# Altium schematic symbol library WE-XHMA.SchLib: 35 symbols
Pins are listed as number, name and electrical type; pins without a type are passive.

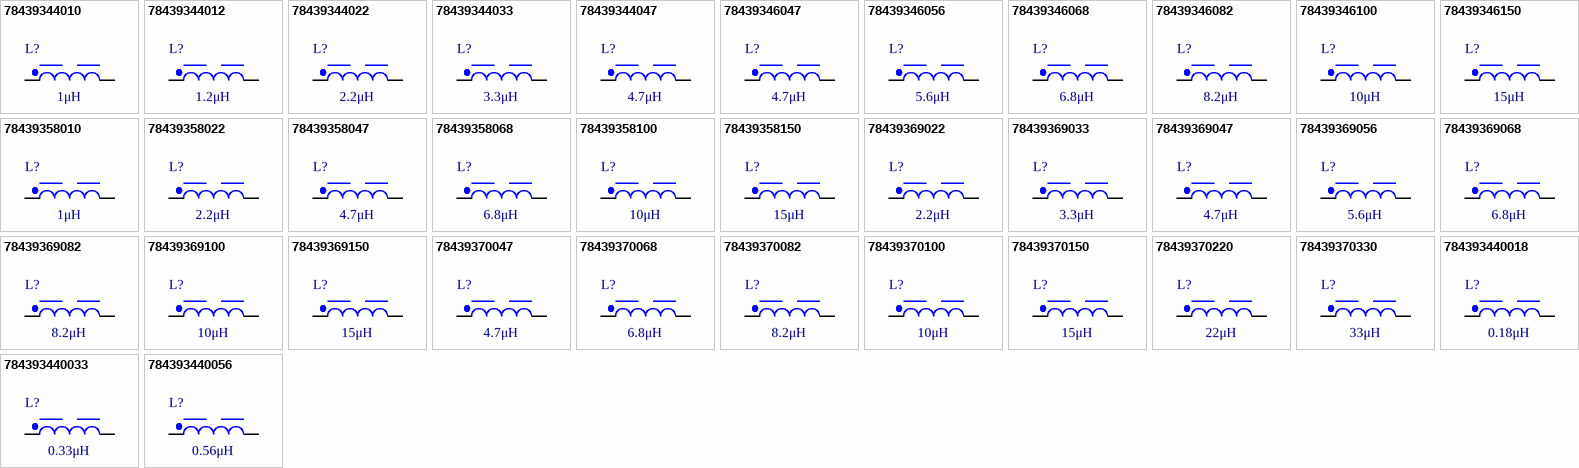
[diagram p0: symbols 78439344010 to 784393440056]

## 78439344010
designator L?, comment 1μH
WE-XHMA SMD Power Inductor, size 6030, 1μH, 15.75A, 5.5mΩ; Manufacturer Part Number: 78439344010; Manufacturer: Wurth Elektronik; Case/Size Code: 6030; Inductance Tolerance: +/-20%; Material: Hyperflux; Rated Current: 12A; Saturation Current @ 10%: 11A; Saturation Current @ 30%: 24.95A; Self Resonant Frequency: 59MHz; Category: Power Inductors; Match Code: WE-XHMA; ComponentLink1Description: Website Link; ComponentLink1URL: https://www.we-online.com/redexpert/article/78439344010?ad; ComponentLink2Description: Datasheet Link; ComponentLink2URL: https://www.we-online.com/redexpert/spec/78439344010?ad; Mount: Surface Mount; Min Operating Temperature: -40°C; Max Operating Temperature: 125°C; Packaging: Tape and Reel; Length: 6.65mm; Width: 6.45mm; Height: 3.3mm; Automotive: Yes; DC Resistance: 5.5mΩ; Inductance: 1μH; Performance Rated Current: 15.75A
footprint WE-XHMA_6030
simulation model 6030_78439344010_1u
pins: 1, 2

## 78439344012
designator L?, comment 1.2μH
WE-XHMA SMD Power Inductor, size 6030, 1.2μH, 14.45A, 6.4mΩ; Manufacturer Part Number: 78439344012; Manufacturer: Wurth Elektronik; Case/Size Code: 6030; Inductance Tolerance: +/-20%; Material: Hyperflux; Rated Current: 10.3A; Saturation Current @ 10%: 7.7A; Saturation Current @ 30%: 21.6A; Self Resonant Frequency: 53MHz; Category: Power Inductors; Match Code: WE-XHMA; ComponentLink1Description: Website Link; ComponentLink1URL: https://www.we-online.com/redexpert/article/78439344012?ad; ComponentLink2Description: Datasheet Link; ComponentLink2URL: https://www.we-online.com/redexpert/spec/78439344012?ad; Mount: Surface Mount; Min Operating Temperature: -40°C; Max Operating Temperature: 125°C; Packaging: Tape and Reel; Length: 6.65mm; Width: 6.45mm; Height: 3.3mm; Automotive: Yes; DC Resistance: 6.4mΩ; Inductance: 1.2μH; Performance Rated Current: 14.45A
footprint WE-XHMA_6030
simulation model 6030_78439344012_1.2u
pins: 1, 2

## 78439344022
designator L?, comment 2.2μH
WE-XHMA SMD Power Inductor, size 6030, 2.2μH, 10.85A, 10.5mΩ; Manufacturer Part Number: 78439344022; Manufacturer: Wurth Elektronik; Case/Size Code: 6030; Inductance Tolerance: +/-20%; Material: Hyperflux; Rated Current: 8A; Saturation Current @ 10%: 7.5A; Saturation Current @ 30%: 16.25A; Self Resonant Frequency: 37MHz; Category: Power Inductors; Match Code: WE-XHMA; ComponentLink1Description: Website Link; ComponentLink1URL: https://www.we-online.com/redexpert/article/78439344022?ad; ComponentLink2Description: Datasheet Link; ComponentLink2URL: https://www.we-online.com/redexpert/spec/78439344022?ad; Mount: Surface Mount; Min Operating Temperature: -40°C; Max Operating Temperature: 125°C; Packaging: Tape and Reel; Length: 6.65mm; Width: 6.45mm; Height: 3.3mm; Automotive: Yes; DC Resistance: 10.5mΩ; Inductance: 2.2μH; Performance Rated Current: 10.85A
footprint WE-XHMA_6030
simulation model 6030_78439344022_2.2u
pins: 1, 2

## 78439344033
designator L?, comment 3.3μH
WE-XHMA SMD Power Inductor, size 6030, 3.3μH, 7.65A, 19.2mΩ; Manufacturer Part Number: 78439344033; Manufacturer: Wurth Elektronik; Case/Size Code: 6030; Inductance Tolerance: +/-20%; Material: Hyperflux; Rated Current: 6A; Saturation Current @ 10%: 6.7A; Saturation Current @ 30%: 14.5A; Self Resonant Frequency: 31MHz; Category: Power Inductors; Match Code: WE-XHMA; ComponentLink1Description: Website Link; ComponentLink1URL: https://www.we-online.com/redexpert/article/78439344033?ad; ComponentLink2Description: Datasheet Link; ComponentLink2URL: https://www.we-online.com/redexpert/spec/78439344033?ad; Mount: Surface Mount; Min Operating Temperature: -40°C; Max Operating Temperature: 125°C; Packaging: Tape and Reel; Length: 6.65mm; Width: 6.45mm; Height: 3.3mm; Automotive: Yes; DC Resistance: 19.2mΩ; Inductance: 3.3μH; Performance Rated Current: 7.65A
footprint WE-XHMA_6030
simulation model 6030_78439344033_3.3u
pins: 1, 2

## 78439344047
designator L?, comment 4.7μH
WE-XHMA SMD Power Inductor, size 6030, 4.7μH, 5.8A, 31mΩ; Manufacturer Part Number: 78439344047; Manufacturer: Wurth Elektronik; Case/Size Code: 6030; Inductance Tolerance: +/-20%; Material: Hyperflux; Rated Current: 4.7A; Saturation Current @ 10%: 3.7A; Saturation Current @ 30%: 10.5A; Self Resonant Frequency: 28MHz; Category: Power Inductors; Match Code: WE-XHMA; ComponentLink1Description: Website Link; ComponentLink1URL: https://www.we-online.com/redexpert/article/78439344047?ad; ComponentLink2Description: Datasheet Link; ComponentLink2URL: https://www.we-online.com/redexpert/spec/78439344047?ad; Mount: Surface Mount; Min Operating Temperature: -40°C; Max Operating Temperature: 125°C; Packaging: Tape and Reel; Length: 6.65mm; Width: 6.45mm; Height: 3.3mm; Automotive: Yes; DC Resistance: 31mΩ; Inductance: 4.7μH; Performance Rated Current: 5.8A
footprint WE-XHMA_6030
simulation model 6030_78439344047_4.7u
pins: 1, 2

## 78439346047
designator L?, comment 4.7μH
WE-XHMA SMD Power Inductor, size 6060, 4.7μH, 9.6A, 13mΩ; Manufacturer Part Number: 78439346047; Manufacturer: Wurth Elektronik; Case/Size Code: 6060; Inductance Tolerance: +/-20%; Material: Hyperflux; Rated Current: 7.4A; Saturation Current @ 10%: 6.5A; Saturation Current @ 30%: 13A; Self Resonant Frequency: 28MHz; Category: Power Inductors; Match Code: WE-XHMA; ComponentLink1Description: Website Link; ComponentLink1URL: https://www.we-online.com/redexpert/article/78439346047?ad; ComponentLink2Description: Datasheet Link; ComponentLink2URL: https://www.we-online.com/redexpert/spec/78439346047?ad; Mount: Surface Mount; Min Operating Temperature: -40°C; Max Operating Temperature: 125°C; Packaging: Tape and Reel; Length: 6.65mm; Width: 6.45mm; Height: 6.1mm; Automotive: Yes; DC Resistance: 13mΩ; Inductance: 4.7μH; Performance Rated Current: 9.6A
footprint WE-XHMA_6060
simulation model 6060_78439346047_4.7u
pins: 1, 2

## 78439346056
designator L?, comment 5.6μH
WE-XHMA SMD Power Inductor, size 6060, 5.6μH, 8.9A, 15mΩ; Manufacturer Part Number: 78439346056; Manufacturer: Wurth Elektronik; Case/Size Code: 6060; Inductance Tolerance: +/-20%; Material: Hyperflux; Rated Current: 6.9A; Saturation Current @ 10%: 5.8A; Saturation Current @ 30%: 12.1A; Self Resonant Frequency: 25MHz; Category: Power Inductors; Match Code: WE-XHMA; ComponentLink1Description: Website Link; ComponentLink1URL: https://www.we-online.com/redexpert/article/78439346056?ad; ComponentLink2Description: Datasheet Link; ComponentLink2URL: https://www.we-online.com/redexpert/spec/78439346056?ad; Mount: Surface Mount; Min Operating Temperature: -40°C; Max Operating Temperature: 125°C; Packaging: Tape and Reel; Length: 6.65mm; Width: 6.45mm; Height: 6.1mm; Automotive: Yes; DC Resistance: 15mΩ; Inductance: 5.6μH; Performance Rated Current: 8.9A
footprint WE-XHMA_6060
simulation model 6060_78439346056_5.6u
pins: 1, 2

## 78439346068
designator L?, comment 6.8μH
WE-XHMA SMD Power Inductor, size 6060, 6.8μH, 8.1A, 17.6mΩ; Manufacturer Part Number: 78439346068; Manufacturer: Wurth Elektronik; Case/Size Code: 6060; Inductance Tolerance: +/-20%; Material: Hyperflux; Rated Current: 6.5A; Saturation Current @ 10%: 5.65A; Saturation Current @ 30%: 11.3A; Self Resonant Frequency: 22MHz; Category: Power Inductors; Match Code: WE-XHMA; ComponentLink1Description: Website Link; ComponentLink1URL: https://www.we-online.com/redexpert/article/78439346068?ad; ComponentLink2Description: Datasheet Link; ComponentLink2URL: https://www.we-online.com/redexpert/spec/78439346068?ad; Mount: Surface Mount; Min Operating Temperature: -40°C; Max Operating Temperature: 125°C; Packaging: Tape and Reel; Length: 6.65mm; Width: 6.45mm; Height: 6.1mm; Automotive: Yes; DC Resistance: 17.6mΩ; Inductance: 6.8μH; Performance Rated Current: 8.1A
footprint WE-XHMA_6060
simulation model 6060_78439346068_6.8u
pins: 1, 2

## 78439346082
designator L?, comment 8.2μH
WE-XHMA SMD Power Inductor, size 6060, 8.2μH, 6.95A, 23mΩ; Manufacturer Part Number: 78439346082; Manufacturer: Wurth Elektronik; Case/Size Code: 6060; Inductance Tolerance: +/-20%; Material: Hyperflux; Rated Current: 5.3A; Saturation Current @ 10%: 4.6A; Saturation Current @ 30%: 9.3A; Self Resonant Frequency: 19MHz; Category: Power Inductors; Match Code: WE-XHMA; ComponentLink1Description: Website Link; ComponentLink1URL: https://www.we-online.com/redexpert/article/78439346082?ad; ComponentLink2Description: Datasheet Link; ComponentLink2URL: https://www.we-online.com/redexpert/spec/78439346082?ad; Mount: Surface Mount; Min Operating Temperature: -40°C; Max Operating Temperature: 125°C; Packaging: Tape and Reel; Length: 6.65mm; Width: 6.45mm; Height: 6.1mm; Automotive: Yes; DC Resistance: 23mΩ; Inductance: 8.2μH; Performance Rated Current: 6.95A
footprint WE-XHMA_6060
simulation model 6060_78439346082_8.2u
pins: 1, 2

## 78439346100
designator L?, comment 10μH
WE-XHMA SMD Power Inductor, size 6060, 10μH, 6.4A, 26.5mΩ; Manufacturer Part Number: 78439346100; Manufacturer: Wurth Elektronik; Case/Size Code: 6060; Inductance Tolerance: +/-20%; Material: Hyperflux; Rated Current: 5A; Saturation Current @ 10%: 5.05A; Saturation Current @ 30%: 9.7A; Self Resonant Frequency: 18MHz; Category: Power Inductors; Match Code: WE-XHMA; ComponentLink1Description: Website Link; ComponentLink1URL: https://www.we-online.com/redexpert/article/78439346100?ad; ComponentLink2Description: Datasheet Link; ComponentLink2URL: https://www.we-online.com/redexpert/spec/78439346100?ad; Mount: Surface Mount; Min Operating Temperature: -40°C; Max Operating Temperature: 125°C; Packaging: Tape and Reel; Length: 6.65mm; Width: 6.45mm; Height: 6.1mm; Automotive: Yes; DC Resistance: 26.5mΩ; Inductance: 10μH; Performance Rated Current: 6.4A
footprint WE-XHMA_6060
simulation model 6060_78439346100_10u
pins: 1, 2

## 78439346150
designator L?, comment 15μH
WE-XHMA SMD Power Inductor, size 6060, 15μH, 4.9A, 42mΩ; Manufacturer Part Number: 78439346150; Manufacturer: Wurth Elektronik; Case/Size Code: 6060; Inductance Tolerance: +/-20%; Material: Hyperflux; Rated Current: 4.2A; Saturation Current @ 10%: 3.65A; Saturation Current @ 30%: 7.4A; Self Resonant Frequency: 14MHz; Category: Power Inductors; Match Code: WE-XHMA; ComponentLink1Description: Website Link; ComponentLink1URL: https://www.we-online.com/redexpert/article/78439346150?ad; ComponentLink2Description: Datasheet Link; ComponentLink2URL: https://www.we-online.com/redexpert/spec/78439346150?ad; Mount: Surface Mount; Min Operating Temperature: -40°C; Max Operating Temperature: 125°C; Packaging: Tape and Reel; Length: 6.65mm; Width: 6.45mm; Height: 6.1mm; Automotive: Yes; DC Resistance: 42mΩ; Inductance: 15μH; Performance Rated Current: 4.9A
footprint WE-XHMA_6060
simulation model 6060_78439346150_15u
pins: 1, 2

## 78439358010
designator L?, comment 1μH
WE-XHMA SMD Power Inductor, size 8080, 1μH, 30.25A, 2.1mΩ; Manufacturer Part Number: 78439358010; Manufacturer: Wurth Elektronik; Case/Size Code: 8080; Inductance Tolerance: +/-20%; Material: Hyperflux; Rated Current: 17A; Saturation Current @ 10%: 18.15A; Saturation Current @ 30%: 38.15A; Self Resonant Frequency: 53MHz; Category: Power Inductors; Match Code: WE-XHMA; ComponentLink1Description: Website Link; ComponentLink1URL: https://www.we-online.com/redexpert/article/78439358010?ad; ComponentLink2Description: Datasheet Link; ComponentLink2URL: https://www.we-online.com/redexpert/spec/78439358010?ad; Mount: Surface Mount; Min Operating Temperature: -40°C; Max Operating Temperature: 125°C; Packaging: Tape and Reel; Length: 8.8mm; Width: 8.3mm; Height: 8mm; Automotive: Yes; DC Resistance: 2.1mΩ; Inductance: 1μH; Performance Rated Current: 30.25A
footprint WE-XHMA_8080
simulation model 8080_78439358010_1u
pins: 1, 2

## 78439358022
designator L?, comment 2.2μH
WE-XHMA SMD Power Inductor, size 8080, 2.2μH, 21.85A, 3.7mΩ; Manufacturer Part Number: 78439358022; Manufacturer: Wurth Elektronik; Case/Size Code: 8080; Inductance Tolerance: +/-20%; Material: Hyperflux; Rated Current: 13A; Saturation Current @ 10%: 12.55A; Saturation Current @ 30%: 26.45A; Self Resonant Frequency: 33MHz; Category: Power Inductors; Match Code: WE-XHMA; ComponentLink1Description: Website Link; ComponentLink1URL: https://www.we-online.com/redexpert/article/78439358022?ad; ComponentLink2Description: Datasheet Link; ComponentLink2URL: https://www.we-online.com/redexpert/spec/78439358022?ad; Mount: Surface Mount; Min Operating Temperature: -40°C; Max Operating Temperature: 125°C; Packaging: Tape and Reel; Length: 8.8mm; Width: 8.3mm; Height: 8mm; Automotive: Yes; DC Resistance: 3.7mΩ; Inductance: 2.2μH; Performance Rated Current: 21.85A
footprint WE-XHMA_8080
simulation model 8080_78439358022_2.2u
pins: 1, 2

## 78439358047
designator L?, comment 4.7μH
WE-XHMA SMD Power Inductor, size 8080, 4.7μH, 13.35A, 8.65mΩ; Manufacturer Part Number: 78439358047; Manufacturer: Wurth Elektronik; Case/Size Code: 8080; Inductance Tolerance: +/-20%; Material: Hyperflux; Rated Current: 9.5A; Saturation Current @ 10%: 7.5A; Saturation Current @ 30%: 16.65A; Self Resonant Frequency: 22MHz; Category: Power Inductors; Match Code: WE-XHMA; ComponentLink1Description: Website Link; ComponentLink1URL: https://www.we-online.com/redexpert/article/78439358047?ad; ComponentLink2Description: Datasheet Link; ComponentLink2URL: https://www.we-online.com/redexpert/spec/78439358047?ad; Mount: Surface Mount; Min Operating Temperature: -40°C; Max Operating Temperature: 125°C; Packaging: Tape and Reel; Length: 8.8mm; Width: 8.3mm; Height: 8mm; Automotive: Yes; DC Resistance: 8.65mΩ; Inductance: 4.7μH; Performance Rated Current: 13.35A
footprint WE-XHMA_8080
simulation model 8080_78439358047_4.7u
pins: 1, 2

## 78439358068
designator L?, comment 6.8μH
WE-XHMA SMD Power Inductor, size 8080, 6.8μH, 10.55A, 13mΩ; Manufacturer Part Number: 78439358068; Manufacturer: Wurth Elektronik; Case/Size Code: 8080; Inductance Tolerance: +/-20%; Material: Hyperflux; Rated Current: 7.2A; Saturation Current @ 10%: 8.5A; Saturation Current @ 30%: 17.6A; Self Resonant Frequency: 22MHz; Category: Power Inductors; Match Code: WE-XHMA; ComponentLink1Description: Website Link; ComponentLink1URL: https://www.we-online.com/redexpert/article/78439358068?ad; ComponentLink2Description: Datasheet Link; ComponentLink2URL: https://www.we-online.com/redexpert/spec/78439358068?ad; Mount: Surface Mount; Min Operating Temperature: -40°C; Max Operating Temperature: 125°C; Packaging: Tape and Reel; Length: 8.8mm; Width: 8.3mm; Height: 8mm; Automotive: Yes; DC Resistance: 13mΩ; Inductance: 6.8μH; Performance Rated Current: 10.55A
footprint WE-XHMA_8080
simulation model 8080_78439358068_6.8u
pins: 1, 2

## 78439358100
designator L?, comment 10μH
WE-XHMA SMD Power Inductor, size 8080, 10μH, 8.5A, 19mΩ; Manufacturer Part Number: 78439358100; Manufacturer: Wurth Elektronik; Case/Size Code: 8080; Inductance Tolerance: +/-20%; Material: Hyperflux; Rated Current: 5.8A; Saturation Current @ 10%: 6.3A; Saturation Current @ 30%: 13.5A; Self Resonant Frequency: 17MHz; Category: Power Inductors; Match Code: WE-XHMA; ComponentLink1Description: Website Link; ComponentLink1URL: https://www.we-online.com/redexpert/article/78439358100?ad; ComponentLink2Description: Datasheet Link; ComponentLink2URL: https://www.we-online.com/redexpert/spec/78439358100?ad; Mount: Surface Mount; Min Operating Temperature: -40°C; Max Operating Temperature: 125°C; Packaging: Tape and Reel; Length: 8.8mm; Width: 8.3mm; Height: 8mm; Automotive: Yes; DC Resistance: 19mΩ; Inductance: 10μH; Performance Rated Current: 8.5A
footprint WE-XHMA_8080
simulation model 8080_78439358100_10u
pins: 1, 2

## 78439358150
designator L?, comment 15μH
WE-XHMA SMD Power Inductor, size 8080, 15μH, 7.25A, 25mΩ; Manufacturer Part Number: 78439358150; Manufacturer: Wurth Elektronik; Case/Size Code: 8080; Inductance Tolerance: +/-20%; Material: Hyperflux; Rated Current: 5.6A; Saturation Current @ 30%: 10.7A; Self Resonant Frequency: 12MHz; Category: Power Inductors; Match Code: WE-XHMA; ComponentLink1Description: Website Link; ComponentLink1URL: https://www.we-online.com/redexpert/article/78439358150?ad; ComponentLink2Description: Datasheet Link; ComponentLink2URL: https://www.we-online.com/redexpert/spec/78439358150?ad; Mount: Surface Mount; Min Operating Temperature: -40°C; Max Operating Temperature: 125°C; Packaging: Tape and Reel; Length: 8.8mm; Width: 8.3mm; Height: 7.8mm; Automotive: Yes; DC Resistance: 25mΩ; Inductance: 15μH; Performance Rated Current: 7.25A; Saturation Current @ 10%: 5.6A
footprint WE-XHMA_8080
pins: 1, 2

## 78439369022
designator L?, comment 2.2μH
WE-XHMA SMD Power Inductor, size 1090, 2.2μH, 32.05A, 2.2mΩ; Manufacturer Part Number: 78439369022; Manufacturer: Wurth Elektronik; Case/Size Code: 1090; Inductance Tolerance: +/-20%; Material: Hyperflux; Rated Current: 16A; Saturation Current @ 10%: 15.65A; Saturation Current @ 30%: 32.1A; Self Resonant Frequency: 28MHz; Category: Power Inductors; Match Code: WE-XHMA; ComponentLink1Description: Website Link; ComponentLink1URL: https://www.we-online.com/redexpert/article/78439369022?ad; ComponentLink2Description: Datasheet Link; ComponentLink2URL: https://www.we-online.com/redexpert/spec/78439369022?ad; Mount: Surface Mount; Min Operating Temperature: -40°C; Max Operating Temperature: 125°C; Packaging: Tape and Reel; Length: 11.6mm; Width: 10.5mm; Height: 9.1mm; Automotive: Yes; DC Resistance: 2.2mΩ; Inductance: 2.2μH; Performance Rated Current: 32.05A
footprint WE-XHMA_1090
simulation model 1090_78439369022_2.2u
pins: 1, 2

## 78439369033
designator L?, comment 3.3μH
WE-XHMA SMD Power Inductor, size 1090, 3.3μH, 24.95A, 3.4mΩ; Manufacturer Part Number: 78439369033; Manufacturer: Wurth Elektronik; Case/Size Code: 1090; Inductance Tolerance: +/-20%; Material: Hyperflux; Rated Current: 15A; Saturation Current @ 10%: 15.6A; Saturation Current @ 30%: 34A; Self Resonant Frequency: 23MHz; Category: Power Inductors; Match Code: WE-XHMA; ComponentLink1Description: Website Link; ComponentLink1URL: https://www.we-online.com/redexpert/article/78439369033?ad; ComponentLink2Description: Datasheet Link; ComponentLink2URL: https://www.we-online.com/redexpert/spec/78439369033?ad; Mount: Surface Mount; Min Operating Temperature: -40°C; Max Operating Temperature: 125°C; Packaging: Tape and Reel; Length: 11.6mm; Width: 10.5mm; Height: 9.1mm; Automotive: Yes; DC Resistance: 3.4mΩ; Inductance: 3.3μH; Performance Rated Current: 24.95A
footprint WE-XHMA_1090
simulation model 1090_78439369033_3.3u
pins: 1, 2

## 78439369047
designator L?, comment 4.7μH
WE-XHMA SMD Power Inductor, size 1090, 4.7μH, 20A, 5mΩ; Manufacturer Part Number: 78439369047; Manufacturer: Wurth Elektronik; Case/Size Code: 1090; Inductance Tolerance: +/-20%; Material: Hyperflux; Rated Current: 13.5A; Saturation Current @ 10%: 13.6A; Saturation Current @ 30%: 28.05A; Self Resonant Frequency: 21MHz; Category: Power Inductors; Match Code: WE-XHMA; ComponentLink1Description: Website Link; ComponentLink1URL: https://www.we-online.com/redexpert/article/78439369047?ad; ComponentLink2Description: Datasheet Link; ComponentLink2URL: https://www.we-online.com/redexpert/spec/78439369047?ad; Mount: Surface Mount; Min Operating Temperature: -40°C; Max Operating Temperature: 125°C; Packaging: Tape and Reel; Length: 11.6mm; Width: 10.5mm; Height: 9.1mm; Automotive: Yes; DC Resistance: 5mΩ; Inductance: 4.7μH; Performance Rated Current: 20A
footprint WE-XHMA_1090
simulation model 1090_78439369047_4.7u
pins: 1, 2

## 78439369056
designator L?, comment 5.6μH
WE-XHMA SMD Power Inductor, size 1090, 5.6μH, 18.15A, 5.9mΩ; Manufacturer Part Number: 78439369056; Manufacturer: Wurth Elektronik; Case/Size Code: 1090; Inductance Tolerance: +/-20%; Material: Hyperflux; Rated Current: 11.5A; Saturation Current @ 10%: 11.1A; Saturation Current @ 30%: 24.45A; Self Resonant Frequency: 18MHz; Category: Power Inductors; Match Code: WE-XHMA; ComponentLink1Description: Website Link; ComponentLink1URL: https://www.we-online.com/redexpert/article/78439369056?ad; ComponentLink2Description: Datasheet Link; ComponentLink2URL: https://www.we-online.com/redexpert/spec/78439369056?ad; Mount: Surface Mount; Min Operating Temperature: -40°C; Max Operating Temperature: 125°C; Packaging: Tape and Reel; Length: 11.6mm; Width: 10.5mm; Height: 9.1mm; Automotive: Yes; DC Resistance: 5.9mΩ; Inductance: 5.6μH; Performance Rated Current: 18.15A
footprint WE-XHMA_1090
simulation model 1090_78439369056_5.6u
pins: 1, 2

## 78439369068
designator L?, comment 6.8μH
WE-XHMA SMD Power Inductor, size 1090, 6.8μH, 16.3A, 7.16mΩ; Manufacturer Part Number: 78439369068; Manufacturer: Wurth Elektronik; Case/Size Code: 1090; Inductance Tolerance: +/-20%; Material: Hyperflux; Rated Current: 10.5A; Saturation Current @ 10%: 10.7A; Saturation Current @ 30%: 23.25A; Self Resonant Frequency: 16MHz; Category: Power Inductors; Match Code: WE-XHMA; ComponentLink1Description: Website Link; ComponentLink1URL: https://www.we-online.com/redexpert/article/78439369068?ad; ComponentLink2Description: Datasheet Link; ComponentLink2URL: https://www.we-online.com/redexpert/spec/78439369068?ad; Mount: Surface Mount; Min Operating Temperature: -40°C; Max Operating Temperature: 125°C; Packaging: Tape and Reel; Length: 11.6mm; Width: 10.5mm; Height: 9.1mm; Automotive: Yes; DC Resistance: 7.16mΩ; Inductance: 6.8μH; Performance Rated Current: 16.3A
footprint WE-XHMA_1090
simulation model 1090_78439369068_6.8u
pins: 1, 2

## 78439369082
designator L?, comment 8.2μH
WE-XHMA SMD Power Inductor, size 1090, 8.2μH, 13.4A, 10mΩ; Manufacturer Part Number: 78439369082; Manufacturer: Wurth Elektronik; Case/Size Code: 1090; Inductance Tolerance: +/-20%; Material: Hyperflux; Rated Current: 9.8A; Saturation Current @ 10%: 9.4A; Saturation Current @ 30%: 20.45A; Self Resonant Frequency: 16MHz; Category: Power Inductors; Match Code: WE-XHMA; ComponentLink1Description: Website Link; ComponentLink1URL: https://www.we-online.com/redexpert/article/78439369082?ad; ComponentLink2Description: Datasheet Link; ComponentLink2URL: https://www.we-online.com/redexpert/spec/78439369082?ad; Mount: Surface Mount; Min Operating Temperature: -40°C; Max Operating Temperature: 125°C; Packaging: Tape and Reel; Length: 11.6mm; Width: 10.5mm; Height: 9.1mm; Automotive: Yes; DC Resistance: 10mΩ; Inductance: 8.2μH; Performance Rated Current: 13.4A
footprint WE-XHMA_1090
simulation model 1090_78439369082_8.2u
pins: 1, 2

## 78439369100
designator L?, comment 10μH
WE-XHMA SMD Power Inductor, size 1090, 10μH, 12.7A, 11mΩ; Manufacturer Part Number: 78439369100; Manufacturer: Wurth Elektronik; Case/Size Code: 1090; Inductance Tolerance: +/-20%; Material: Hyperflux; Rated Current: 9.4A; Saturation Current @ 10%: 9.2A; Saturation Current @ 30%: 20.3A; Self Resonant Frequency: 14MHz; Category: Power Inductors; Match Code: WE-XHMA; ComponentLink1Description: Website Link; ComponentLink1URL: https://www.we-online.com/redexpert/article/78439369100?ad; ComponentLink2Description: Datasheet Link; ComponentLink2URL: https://www.we-online.com/redexpert/spec/78439369100?ad; Mount: Surface Mount; Min Operating Temperature: -40°C; Max Operating Temperature: 125°C; Packaging: Tape and Reel; Length: 11.6mm; Width: 10.5mm; Height: 9.1mm; Automotive: Yes; DC Resistance: 11mΩ; Inductance: 10μH; Performance Rated Current: 12.7A
footprint WE-XHMA_1090
simulation model 1090_78439369100_10u
pins: 1, 2

## 78439369150
designator L?, comment 15μH
WE-XHMA SMD Power Inductor, size 1090, 15μH, 10.75A, 14.8mΩ; Manufacturer Part Number: 78439369150; Manufacturer: Wurth Elektronik; Case/Size Code: 1090; Inductance Tolerance: +/-20%; Material: Hyperflux; Rated Current: 8.3A; Saturation Current @ 10%: 7.2A; Saturation Current @ 30%: 16.95A; Self Resonant Frequency: 11MHz; Category: Power Inductors; Match Code: WE-XHMA; ComponentLink1Description: Website Link; ComponentLink1URL: https://www.we-online.com/redexpert/article/78439369150?ad; ComponentLink2Description: Datasheet Link; ComponentLink2URL: https://www.we-online.com/redexpert/spec/78439369150?ad; Mount: Surface Mount; Min Operating Temperature: -40°C; Max Operating Temperature: 125°C; Packaging: Tape and Reel; Length: 11.6mm; Width: 10.5mm; Height: 9.1mm; Automotive: Yes; DC Resistance: 14.8mΩ; Inductance: 15μH; Performance Rated Current: 10.75A
footprint WE-XHMA_1090
simulation model 1090_78439369150_15u
pins: 1, 2

## 78439370047
designator L?, comment 4.7μH
WE-XHMA SMD Power Inductor, size 1510, 4.7μH, 29.37A, 3.1mΩ; Manufacturer Part Number: 78439370047; Manufacturer: Wurth Elektronik; Case/Size Code: 1510; Inductance Tolerance: +/-20%; Material: Hyperflux; Rated Current: 17A; Saturation Current @ 10%: 20.9A; Saturation Current @ 30%: 47.4A; Self Resonant Frequency: 16MHz; Category: Power Inductors; Match Code: WE-XHMA; ComponentLink1Description: Website Link; ComponentLink1URL: https://www.we-online.com/redexpert/article/78439370047?ad; ComponentLink2Description: Datasheet Link; ComponentLink2URL: https://www.we-online.com/redexpert/spec/78439370047?ad; Mount: Surface Mount; Min Operating Temperature: -40°C; Max Operating Temperature: 125°C; Packaging: Tape and Reel; Length: 16.4mm; Width: 15.4mm; Height: 10mm; Automotive: Yes; DC Resistance: 3.1mΩ; Inductance: 4.7μH; Performance Rated Current: 29.37A
footprint WE-XHMA_1510
simulation model 1510_78439370047_4.7u
pins: 1, 2

## 78439370068
designator L?, comment 6.8μH
WE-XHMA SMD Power Inductor, size 1510, 6.8μH, 25.3A, 4.1mΩ; Manufacturer Part Number: 78439370068; Manufacturer: Wurth Elektronik; Case/Size Code: 1510; Inductance Tolerance: +/-20%; Material: Hyperflux; Rated Current: 15A; Saturation Current @ 10%: 17.8A; Saturation Current @ 30%: 40.05A; Self Resonant Frequency: 14MHz; Category: Power Inductors; Match Code: WE-XHMA; ComponentLink1Description: Website Link; ComponentLink1URL: https://www.we-online.com/redexpert/article/78439370068?ad; ComponentLink2Description: Datasheet Link; ComponentLink2URL: https://www.we-online.com/redexpert/spec/78439370068?ad; Mount: Surface Mount; Min Operating Temperature: -40°C; Max Operating Temperature: 125°C; Packaging: Tape and Reel; Length: 16.4mm; Width: 15.4mm; Height: 10mm; Automotive: Yes; DC Resistance: 4.1mΩ; Inductance: 6.8μH; Performance Rated Current: 25.3A
footprint WE-XHMA_1510
simulation model 1510_78439370068_6.8u
pins: 1, 2

## 78439370082
designator L?, comment 8.2μH
WE-XHMA SMD Power Inductor, size 1510, 8.2μH, 21.35A, 5.5mΩ; Manufacturer Part Number: 78439370082; Manufacturer: Wurth Elektronik; Case/Size Code: 1510; Inductance Tolerance: +/-20%; Material: Hyperflux; Rated Current: 13A; Saturation Current @ 10%: 15A; Saturation Current @ 30%: 36.4A; Self Resonant Frequency: 11MHz; Category: Power Inductors; Match Code: WE-XHMA; ComponentLink1Description: Website Link; ComponentLink1URL: https://www.we-online.com/redexpert/article/78439370082?ad; ComponentLink2Description: Datasheet Link; ComponentLink2URL: https://www.we-online.com/redexpert/spec/78439370082?ad; Mount: Surface Mount; Min Operating Temperature: -40°C; Max Operating Temperature: 125°C; Packaging: Tape and Reel; Length: 16.4mm; Width: 15.4mm; Height: 10mm; Automotive: Yes; DC Resistance: 5.5mΩ; Inductance: 8.2μH; Performance Rated Current: 21.35A
footprint WE-XHMA_1510
simulation model 1510_78439370082_8.2u
pins: 1, 2

## 78439370100
designator L?, comment 10μH
WE-XHMA SMD Power Inductor, size 1510, 10μH, 19.6A, 6.4mΩ; Manufacturer Part Number: 78439370100; Manufacturer: Wurth Elektronik; Case/Size Code: 1510; Inductance Tolerance: +/-20%; Material: Hyperflux; Rated Current: 11.5A; Saturation Current @ 10%: 12.9A; Saturation Current @ 30%: 31.2A; Self Resonant Frequency: 9MHz; Category: Power Inductors; Match Code: WE-XHMA; ComponentLink1Description: Website Link; ComponentLink1URL: https://www.we-online.com/redexpert/article/78439370100?ad; ComponentLink2Description: Datasheet Link; ComponentLink2URL: https://www.we-online.com/redexpert/spec/78439370100?ad; Mount: Surface Mount; Min Operating Temperature: -40°C; Max Operating Temperature: 125°C; Packaging: Tape and Reel; Length: 16.4mm; Width: 15.4mm; Height: 10mm; Automotive: Yes; DC Resistance: 6.4mΩ; Inductance: 10μH; Performance Rated Current: 19.6A
footprint WE-XHMA_1510
simulation model 1510_78439370100_10u
pins: 1, 2

## 78439370150
designator L?, comment 15μH
WE-XHMA SMD Power Inductor, size 1510, 15μH, 14.7A, 10.5mΩ; Manufacturer Part Number: 78439370150; Manufacturer: Wurth Elektronik; Case/Size Code: 1510; Inductance Tolerance: +/-20%; Material: Hyperflux; Rated Current: 10A; Saturation Current @ 10%: 10.25A; Saturation Current @ 30%: 26.1A; Self Resonant Frequency: 8MHz; Category: Power Inductors; Match Code: WE-XHMA; ComponentLink1Description: Website Link; ComponentLink1URL: https://www.we-online.com/redexpert/article/78439370150?ad; ComponentLink2Description: Datasheet Link; ComponentLink2URL: https://www.we-online.com/redexpert/spec/78439370150?ad; Mount: Surface Mount; Min Operating Temperature: -40°C; Max Operating Temperature: 125°C; Packaging: Tape and Reel; Length: 16.4mm; Width: 15.4mm; Height: 10mm; Automotive: Yes; DC Resistance: 10.5mΩ; Inductance: 15μH; Performance Rated Current: 14.7A
footprint WE-XHMA_1510
simulation model 1510_78439370150_15u
pins: 1, 2

## 78439370220
designator L?, comment 22μH
WE-XHMA SMD Power Inductor, size 1510, 22μH, 13.35A, 12.5mΩ; Manufacturer Part Number: 78439370220; Manufacturer: Wurth Elektronik; Case/Size Code: 1510; Inductance Tolerance: +/-20%; Material: Hyperflux; Rated Current: 8A; Saturation Current @ 10%: 9.1A; Saturation Current @ 30%: 22.35A; Self Resonant Frequency: 7MHz; Category: Power Inductors; Match Code: WE-XHMA; ComponentLink1Description: Website Link; ComponentLink1URL: https://www.we-online.com/redexpert/article/78439370220?ad; ComponentLink2Description: Datasheet Link; ComponentLink2URL: https://www.we-online.com/redexpert/spec/78439370220?ad; Mount: Surface Mount; Min Operating Temperature: -40°C; Max Operating Temperature: 125°C; Packaging: Tape and Reel; Length: 16.4mm; Width: 15.4mm; Height: 10mm; Automotive: Yes; DC Resistance: 12.5mΩ; Inductance: 22μH; Performance Rated Current: 13.35A
footprint WE-XHMA_1510
simulation model 1510_78439370220_22u
pins: 1, 2

## 78439370330
designator L?, comment 33μH
WE-XHMA SMD Power Inductor, size 1510, 33μH, 10.8A, 18mΩ; Manufacturer Part Number: 78439370330; Manufacturer: Wurth Elektronik; Case/Size Code: 1510; Inductance Tolerance: +/-20%; Material: Hyperflux; Rated Current: 8.5A; Saturation Current @ 10%: 6.8A; Saturation Current @ 30%: 18.15A; Self Resonant Frequency: 5MHz; Category: Power Inductors; Match Code: WE-XHMA; ComponentLink1Description: Website Link; ComponentLink1URL: https://www.we-online.com/redexpert/article/78439370330?ad; ComponentLink2Description: Datasheet Link; ComponentLink2URL: https://www.we-online.com/redexpert/spec/78439370330?ad; Mount: Surface Mount; Min Operating Temperature: -40°C; Max Operating Temperature: 125°C; Packaging: Tape and Reel; Length: 16.4mm; Width: 15.4mm; Height: 10mm; Automotive: Yes; DC Resistance: 18mΩ; Inductance: 33μH; Performance Rated Current: 10.8A
footprint WE-XHMA_1510
simulation model 1510_78439370330_33u
pins: 1, 2

## 784393440018
designator L?, comment 0.18μH
WE-XHMA SMD Power Inductor, size 6030, 0.18μH, 35.65A, 1.32mΩ; Manufacturer Part Number: 784393440018; Manufacturer: Wurth Elektronik; Case/Size Code: 6030; Inductance Tolerance: +/-20%; Material: Hyperflux; Rated Current: 20A; Saturation Current @ 10%: 24.9A; Saturation Current @ 30%: 50.6A; Self Resonant Frequency: 169MHz; Category: Power Inductors; Match Code: WE-XHMA; ComponentLink1Description: Website Link; ComponentLink1URL: https://www.we-online.com/redexpert/article/784393440018?ad; ComponentLink2Description: Datasheet Link; ComponentLink2URL: https://www.we-online.com/redexpert/spec/784393440018?ad; Mount: Surface Mount; Min Operating Temperature: -40°C; Max Operating Temperature: 125°C; Packaging: Tape and Reel; Length: 6.65mm; Width: 6.45mm; Height: 3.3mm; Automotive: Yes; DC Resistance: 1.32mΩ; Inductance: 0.18μH; Performance Rated Current: 35.65A
footprint WE-XHMA_6030
simulation model 6030_784393440018_0.18u
pins: 1, 2

## 784393440033
designator L?, comment 0.33μH
WE-XHMA SMD Power Inductor, size 6030, 0.33μH, 27.35A, 2.1mΩ; Manufacturer Part Number: 784393440033; Manufacturer: Wurth Elektronik; Case/Size Code: 6030; Inductance Tolerance: +/-20%; Material: Hyperflux; Rated Current: 16.5A; Saturation Current @ 10%: 20A; Saturation Current @ 30%: 42.9A; Self Resonant Frequency: 113MHz; Category: Power Inductors; Match Code: WE-XHMA; ComponentLink1Description: Website Link; ComponentLink1URL: https://www.we-online.com/redexpert/article/784393440033?ad; ComponentLink2Description: Datasheet Link; ComponentLink2URL: https://www.we-online.com/redexpert/spec/784393440033?ad; Mount: Surface Mount; Min Operating Temperature: -40°C; Max Operating Temperature: 125°C; Packaging: Tape and Reel; Length: 6.65mm; Width: 6.45mm; Height: 3.3mm; Automotive: Yes; DC Resistance: 2.1mΩ; Inductance: 0.33μH; Performance Rated Current: 27.35A
footprint WE-XHMA_6030
simulation model 6030_784393440033_0.33u
pins: 1, 2

## 784393440056
designator L?, comment 0.56μH
WE-XHMA SMD Power Inductor, size 6030, 0.56μH, 22.75A, 2.9mΩ; Manufacturer Part Number: 784393440056; Manufacturer: Wurth Elektronik; Case/Size Code: 6030; Inductance Tolerance: +/-20%; Material: Hyperflux; Rated Current: 16A; Saturation Current @ 10%: 14.5A; Saturation Current @ 30%: 30.8A; Self Resonant Frequency: 77MHz; Category: Power Inductors; Match Code: WE-XHMA; ComponentLink1Description: Website Link; ComponentLink1URL: https://www.we-online.com/redexpert/article/784393440056?ad; ComponentLink2Description: Datasheet Link; ComponentLink2URL: https://www.we-online.com/redexpert/spec/784393440056?ad; Mount: Surface Mount; Min Operating Temperature: -40°C; Max Operating Temperature: 125°C; Packaging: Tape and Reel; Length: 6.65mm; Width: 6.45mm; Height: 3.3mm; Automotive: Yes; DC Resistance: 2.9mΩ; Inductance: 0.56μH; Performance Rated Current: 22.75A
footprint WE-XHMA_6030
simulation model 6030_784393440056_0.56u
pins: 1, 2